# EAGLE library part 4094 (library we-chip)
4094 8-Bit Shift/Store Register (3-State)
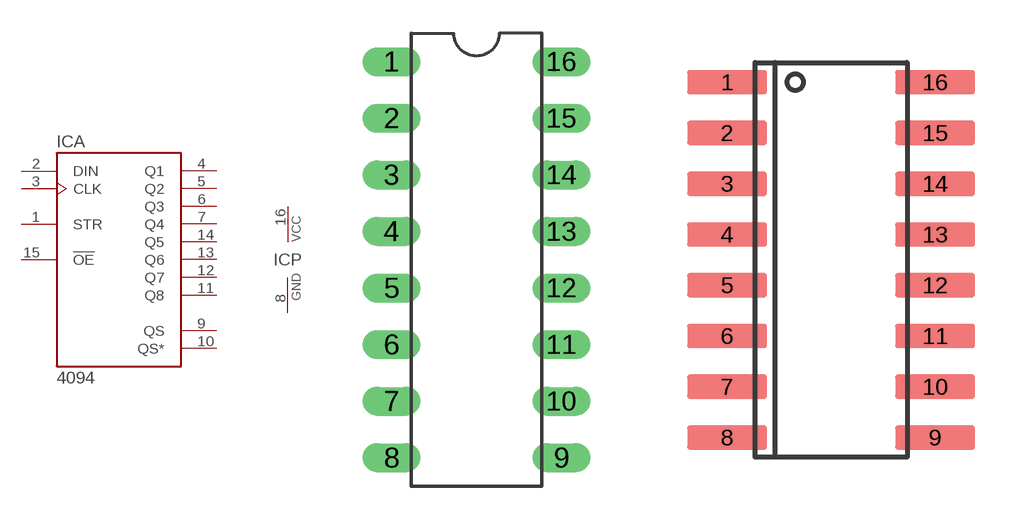
[diagram p18: symbol with the pads of DIL16; footprints DIL16, SO16]

Designator prefix IC; gates A=4094 P=GATE_PWR

## 4094N  [DIL16]
1  A:STR  in
2  A:DIN  in
3  A:CLK  in
4  A:Q1  hiz
5  A:Q2  hiz
6  A:Q3  hiz
7  A:Q4  hiz
8  P:GND  pwr
9  A:QS  out
10  A:QS*  out
11  A:Q8  hiz
12  A:Q7  hiz
13  A:Q6  hiz
14  A:Q5  hiz
15  A:!OE  in
16  P:VCC  pwr

## 4094D  [SO16]
Pads as for DIL16

## 4094PW  [TSSOP16]
Pads as for DIL16

## Footprint DIL16 (pad centres in mm)
drill 0.8 pad 1.2 long: 1 -3.81,8.89; 2 -3.81,6.35; 3 -3.81,3.81; 4 -3.81,1.27; 5 -3.81,-1.27; 6 -3.81,-3.81; 7 -3.81,-6.35; 8 -3.81,-8.89; 9 3.81,-8.89; 10 3.81,-6.35; 11 3.81,-3.81; 12 3.81,-1.27; 13 3.81,1.27; 14 3.81,3.81; 15 3.81,6.35; 16 3.81,8.89

## Footprint SO16 (pad centres in mm)
smd 2 x 0.6: 1 -2.6,4.445; 2 -2.6,3.175; 3 -2.6,1.905; 4 -2.6,0.635; 5 -2.6,-0.635; 6 -2.6,-1.905; 7 -2.6,-3.175; 8 -2.6,-4.445; 9 2.6,-4.445; 10 2.6,-3.175; 11 2.6,-1.905; 12 2.6,-0.635; 13 2.6,0.635; 14 2.6,1.905; 15 2.6,3.175; 16 2.6,4.445

## Footprint TSSOP16 (pad centres in mm)
smd 1.2 x 0.35: 1 -3,2.275; 2 -3,1.625; 3 -3,0.975; 4 -3,0.325; 5 -3,-0.325; 6 -3,-0.975; 7 -3,-1.625; 8 -3,-2.275; 9 3,-2.275; 10 3,-1.625; 11 3,-0.975; 12 3,-0.325; 13 3,0.325; 14 3,0.975; 15 3,1.625; 16 3,2.275